# Altium footprint library LM.PcbLib: 21 footprints (part 2 of 2)
Each footprint in its own frame and in the unit in brackets; x right, y up, seen from the top. Pads: shape width x height; smd on the part's side, far side on the other; paste and mask are expansions set on the pad; w line width, h text height; cw(c..) or ccw(c..) is an arc to the next point about the centre after c.
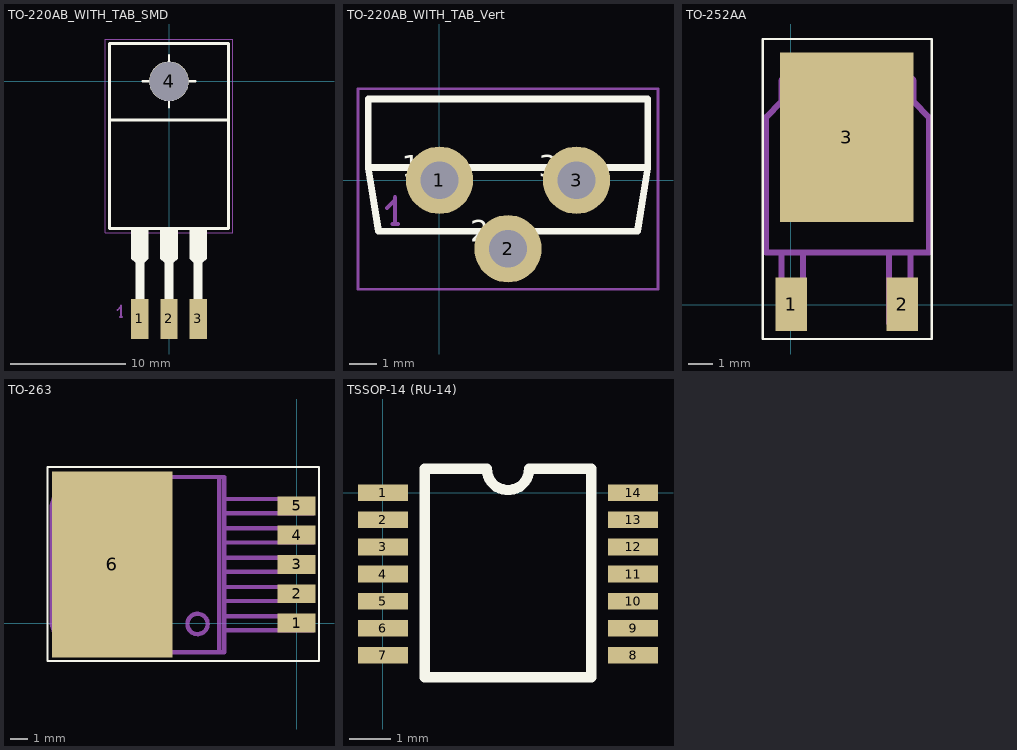
[diagram p1: the footprints below, top view; thin cyan lines are the x and y axes]

## TO-220AB_WITH_TAB_SMD [mm]
pads (4):
  rect 1.5x3.5 smd: 1(-2.54,-20.675) 2(0,-20.675) 3(2.54,-20.675)
  round 3.4 hole 3.4 unplated: 4(0,0)
Top Overlay:
  circle w0.254: c0,0 r1.6
  region: -0.75,-12.925 -0.75,-15.425 -0.375,-15.8 0.375,-15.8 0.75,-15.425 0.75,-12.925
  region: 0.375,-15.8 -0.375,-15.8 -0.375,-20.3 -0.005,-20.3 0.375,-20.3
  region: 1.79,-12.925 1.79,-15.425 2.165,-15.8 2.915,-15.8 3.29,-15.425 3.29,-12.925
  region: -3.29,-12.925 -3.29,-15.425 -2.915,-15.8 -2.165,-15.8 -1.79,-15.425 -1.79,-12.925 -2.54,-12.925
  region: 2.915,-15.8 2.165,-15.8 2.165,-20.3 2.535,-20.3 2.915,-20.3
  region: -2.165,-15.8 -2.915,-15.8 -2.915,-20.3 -2.545,-20.3 -2.165,-20.3
  lines w0.2: -2.286,0 2.286,0 ; 0,-2.286 0,2.286
  lines w0.254: -5.18,-3.37 5.18,-3.37 ; -5.18,-3.37 -5.18,-12.8 5.18,-12.8 5.18,-3.37 ; -5.18,-3.37 -5.18,3.3 5.18,3.3 5.18,-3.37
Mechanical 1:
  lines w0.1: -2.54,-16.875 -2.54,-13.18 ; 0,-16.875 0,-13.18 ; 2.54,-16.875 2.54,-13.18 ; -5.56,-13.18 5.56,-13.18 5.56,3.68 -5.56,3.68 -5.56,-13.18
  lines w0.15: -4.485,-19.91 -4.185,-19.61 ; -4.285,-20.51 -4.085,-20.51 ; -4.185,-20.51 -4.185,-19.51

## TO-220AB_WITH_TAB_Vert [mm]
pads (3):
  round 2.5 hole 1.4: 1(0,0) 2(2.54,-2.54) 3(5.08,0)
Top Overlay:
  lines w0.254: -2.64,0.47 7.72,0.47 ; -2.64,0.47 -2.26,-1.89 7.34,-1.89 7.72,0.47 ; -2.64,0.47 -2.64,3.01 7.72,3.01 7.72,0.47
  text "3" at 3.683,0.127 h0.79
  text "1" at -1.397,0.127 h0.79
  text "2" at 1.143,-2.286 h0.79
Mechanical 1:
  lines w0.1: -3.02,-4.04 8.1,-4.04 8.1,3.39 -3.02,3.39 -3.02,-4.04
  lines w0.15: -1.945,-1.03 -1.645,-0.73 ; -1.745,-1.63 -1.545,-1.63 ; -1.645,-1.63 -1.645,-0.63

## TO-252AA [mm]
pads (3):
  rect 1.3x2.2 smd: 1(0.017,0.02) 2(4.617,0.02)
  rect 5.5x7 smd: 3(2.317,6.92)
Top Overlay:
  lines w0.1: -1.16,-1.42 5.84,-1.42 5.84,10.98 -1.16,10.98 -1.16,-1.42
Mechanical 1:
  lines w0.25: -0.381,-0.254 0.508,-0.254 ; -0.381,2.159 -0.381,-0.762 0.508,-0.762 0.508,2.159 ; 4.064,-0.254 4.953,-0.254 ; 4.064,2.159 4.064,-0.762 4.953,-0.762 4.953,2.159 ; -0.381,8.382 5.08,8.382 ; -0.381,8.382 -1.016,7.747 -1.016,2.159 5.715,2.159 5.715,7.747 5.08,8.382 ; -0.381,8.382 -0.381,9.271 0,9.652 4.699,9.652 5.08,9.271 5.08,8.382

## TO-263 [mm]
pads (6):
  rect 2.2x1.1 smd: 1(0,0) 2(0,1.7) 3(0,3.4) 4(0,5.1) 5(0,6.8)
  rect 7x10.8 smd: 6(-10.7,3.4)
Top Overlay:
  lines w0.1: -14.45,-2.2 1.3,-2.2 1.3,9.05 -14.45,9.05 -14.45,-2.2
Mechanical 1:
  circle w0.25: c-5.743,-0.053 r0.589
  lines w0.25: -12.746,-1.694 -12.746,8.466 ; -12.277,-1.694 -12.277,8.466 ; -4.493,-1.694 -4.493,8.466 ; -4.196,-0.423 0.952,-0.423 0.952,0.394 -4.196,0.394 ; -4.196,1.277 0.952,1.277 0.952,2.094 -4.196,2.094 ; -4.196,2.977 0.952,2.977 0.952,3.794 -4.196,3.794 ; -4.196,4.677 0.952,4.677 0.952,5.494 -4.196,5.494 ; -4.196,6.377 0.952,6.377 0.952,7.194 -4.196,7.194 ; 0.623,-0.423 0.623,0.394 ; 0.623,1.277 0.623,2.094 ; 0.623,2.977 0.623,3.794 ; 0.623,4.677 0.623,5.494 ; 0.623,6.377 0.623,7.194 ; -14.196,-0.034 -14.196,6.805 -13.714,8.466 -4.196,8.466 -4.196,-1.694 -13.714,-1.694 -14.196,-0.034

## TSSOP-14 (RU-14) [mm]
pads (14):
  rect 1.2x0.4 smd: 1(0,0) 2(0,-0.65) 3(0,-1.3) 4(0,-1.95) 5(0,-2.6) 6(0,-3.25) 7(0,-3.9) 8(6.003,-3.9) 9(6.003,-3.25) 10(6.003,-2.6) 11(6.003,-1.95) 12(6.003,-1.3) 13(6.003,-0.65) 14(6.003,0)
Top Overlay:
  lines w0.25: 1.001,-4.425 5.001,-4.425 5.001,0.575 3.51,0.575 cw(c3.002,0.575) 2.494,0.575 1.001,0.575 1.001,-4.425